# Altium footprint library XSDR.PcbLib: 30 footprints (part 2 of 2)
Each footprint in its own frame and in the unit in brackets; x right, y up, seen from the top. Pads: shape width x height; smd on the part's side, far side on the other; paste and mask are expansions set on the pad; w line width, h text height; cw(c..) or ccw(c..) is an arc to the next point about the centre after c.
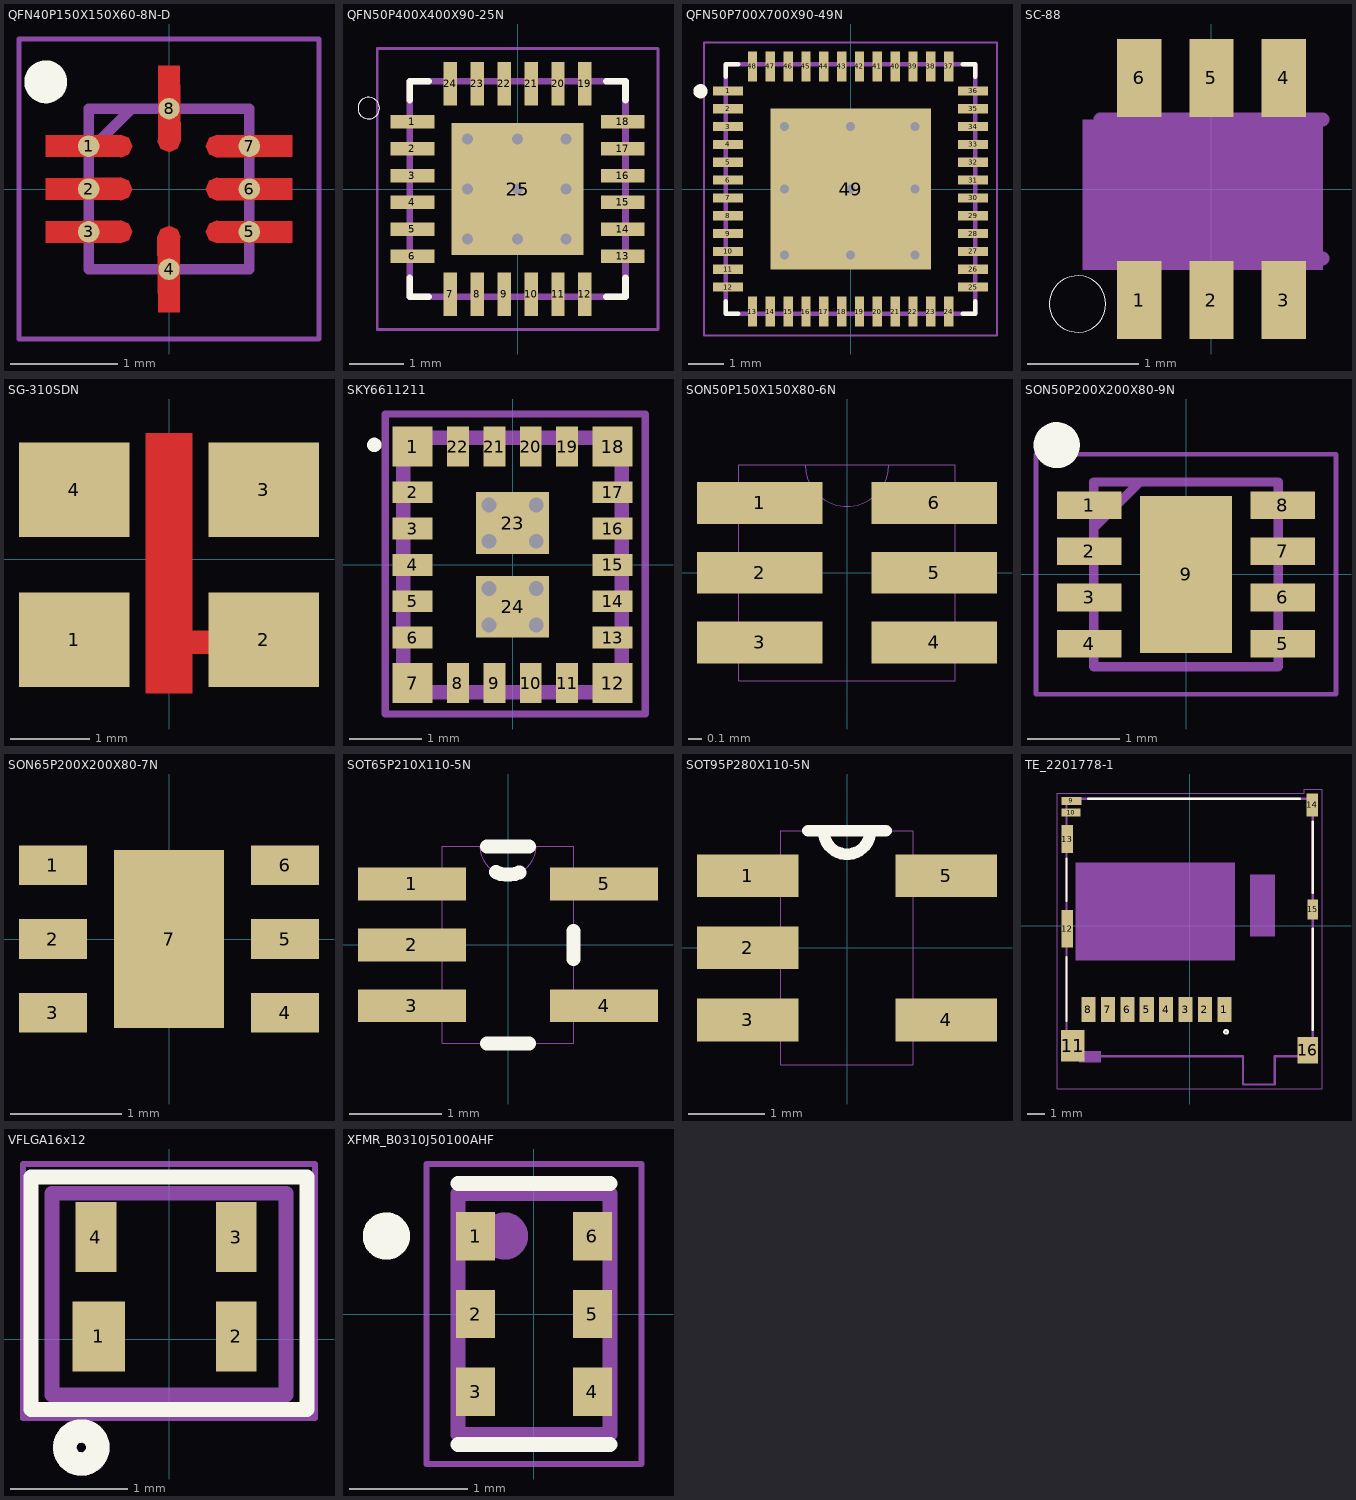
[diagram p1: the footprints below, top view; thin cyan lines are the x and y axes]

## QFN40P150X150X60-8N-D [mm]
pads (8):
  round 0.2 smd: 1(-0.75,0.4) 2(-0.75,0) 3(-0.75,-0.4) 4(0,-0.75) 5(0.75,-0.4) 6(0.75,0) 7(0.75,0.4) 8(0,0.75)
Top Layer:
  region: -1.15,0.5 -0.45,0.508 -0.373,0.477 -0.342,0.4 -0.373,0.323 -0.45,0.292 -0.45,0.3 -1.15,0.3
  region: -1.15,0.1 -0.45,0.108 -0.373,0.077 -0.342,0 -0.373,-0.077 -0.45,-0.108 -0.45,-0.1 -1.15,-0.1
  region: -1.15,-0.3 -0.45,-0.292 -0.373,-0.323 -0.342,-0.4 -0.373,-0.477 -0.45,-0.508 -0.45,-0.5 -1.15,-0.5
  region: -0.1,-1.15 -0.108,-0.45 -0.077,-0.373 0,-0.342 0.077,-0.373 0.108,-0.45 0.1,-0.45 0.1,-1.15
  region: 1.15,-0.5 0.45,-0.508 0.373,-0.477 0.342,-0.4 0.373,-0.323 0.45,-0.292 0.45,-0.3 1.15,-0.3
  region: 1.15,-0.1 0.45,-0.108 0.373,-0.077 0.342,0 0.373,0.077 0.45,0.108 0.45,0.1 1.15,0.1
  region: 1.15,0.3 0.45,0.292 0.373,0.323 0.342,0.4 0.373,0.477 0.45,0.508 0.45,0.5 1.15,0.5
  region: 0.1,1.15 0.108,0.45 0.077,0.373 0,0.342 -0.077,0.373 -0.108,0.45 -0.1,0.45 -0.1,1.15
Top Overlay:
  circle w0.2: c-1.15,1 r0.1
Mechanical 15:
  lines w0.1: -0.75,0.35 -0.35,0.75 ; -0.75,-0.75 0.75,-0.75 0.75,0.75 -0.75,0.75 -0.75,-0.75
Mechanical 20:
  lines w0.05: -1.4,-1.4 1.4,-1.4 1.4,1.4 -1.4,1.4 -1.4,-1.4
3D body "SC560HULTRT.stp": height 0.6, standoff 0, extent -0.8,-0.8 0.8,0.8

## QFN50P400X400X90-25N [mm]
pads (25):
  rect 0.81x0.25 smd: 1(-1.95,1.25) 2(-1.95,0.75) 3(-1.95,0.25) 4(-1.95,-0.25) 5(-1.95,-0.75) 6(-1.95,-1.25) 13(1.95,-1.25) 14(1.95,-0.75) 15(1.95,-0.25) 16(1.95,0.25) 17(1.95,0.75) 18(1.95,1.25)
  rect 0.25x0.81 smd: 7(-1.25,-1.95) 8(-0.75,-1.95) 9(-0.25,-1.95) 10(0.25,-1.95) 11(0.75,-1.95) 12(1.25,-1.95) 19(1.25,1.95) 20(0.75,1.95) 21(0.25,1.95) 22(-0.25,1.95) 23(-0.75,1.95) 24(-1.25,1.95)
  rect 2.45x2.45 smd: 25(0,0)
via 0,0 diameter 0.381 hole 0.203
via 0.9,0 diameter 0.381 hole 0.203
via 0,0.925 diameter 0.381 hole 0.203
via -0.925,-0.925 diameter 0.381 hole 0.203
via -0.925,0 diameter 0.381 hole 0.203
via -0.925,0.925 diameter 0.381 hole 0.203
via 0.9,0.925 diameter 0.381 hole 0.203
via 0.9,-0.925 diameter 0.381 hole 0.203
via 0,-0.925 diameter 0.381 hole 0.203
Top Overlay:
  circle w0: c-2.76,1.5 r0.2
  lines w0.127: -2,-1.65 -2,-2 -1.65,-2 ; -2,1.65 -2,2 -1.65,2 ; 1.65,-2 2,-2 2,-1.65 ; 1.65,2 2,2 2,1.65
Top Paste:
  region: 0.16,1.06 1.06,1.06 1.06,0.16 0.16,0.16
  region: -1.06,1.06 -0.16,1.06 -0.16,0.16 -1.06,0.16
  region: -1.06,-0.16 -0.16,-0.16 -0.16,-1.06 -1.06,-1.06
  region: 0.16,-0.16 1.06,-0.16 1.06,-1.06 0.16,-1.06
Mechanical 4:
  circle w0: c-2.76,1.5 r0.2
  circle w0: c-2.76,1.5 r0.2
  lines w0.127: -2,-2 2,-2 ; -2,-2 -2,2 ; -2,-2 2,-2 ; -2,-2 -2,2 ; -2,2 2,2 ; -2,2 2,2 ; 2,-2 2,2 ; 2,-2 2,2
Mechanical 16:
  lines w0.05: -2.605,-2.605 2.605,-2.605 2.605,2.605 -2.605,2.605 -2.605,-2.605
3D body "SE2435L-R.stp": height 0.9, standoff 0, extent -2.05,-2.037 2.05,2.063

## QFN50P700X700X90-49N [mm]
pads (49):
  rect 0.84x0.26 smd: 1(-3.435,2.75) 2(-3.435,2.25) 3(-3.435,1.75) 4(-3.435,1.25) 5(-3.435,0.75) 6(-3.435,0.25) 7(-3.435,-0.25) 8(-3.435,-0.75) 9(-3.435,-1.25) 10(-3.435,-1.75) 11(-3.435,-2.25) 12(-3.435,-2.75) 25(3.435,-2.75) 26(3.435,-2.25) 27(3.435,-1.75) 28(3.435,-1.25) 29(3.435,-0.75) 30(3.435,-0.25) 31(3.435,0.25) 32(3.435,0.75) 33(3.435,1.25) 34(3.435,1.75) 35(3.435,2.25) 36(3.435,2.75)
  rect 0.26x0.84 smd: 13(-2.75,-3.435) 14(-2.25,-3.435) 15(-1.75,-3.435) 16(-1.25,-3.435) 17(-0.75,-3.435) 18(-0.25,-3.435) 19(0.25,-3.435) 20(0.75,-3.435) 21(1.25,-3.435) 22(1.75,-3.435) 23(2.25,-3.435) 24(2.75,-3.435) 37(2.75,3.435) 38(2.25,3.435) 39(1.75,3.435) 40(1.25,3.435) 41(0.75,3.435) 42(0.25,3.435) 43(-0.25,3.435) 44(-0.75,3.435) 45(-1.25,3.435) 46(-1.75,3.435) 47(-2.25,3.435) 48(-2.75,3.435)
  rect 4.5x4.5 smd: 49(0,0)
via 0,0 diameter 0.508 hole 0.254
via 1.803,0 diameter 0.508 hole 0.254
via -1.854,0 diameter 0.508 hole 0.254
via -1.854,1.753 diameter 0.508 hole 0.254
via 1.803,1.753 diameter 0.508 hole 0.254
via 0,1.753 diameter 0.508 hole 0.254
via -1.854,-1.854 diameter 0.508 hole 0.254
via 1.803,-1.854 diameter 0.508 hole 0.254
via 0,-1.854 diameter 0.508 hole 0.254
Top Overlay:
  circle w0.2: c-4.205,2.74 r0.1
  lines w0.127: -3.5,-3.15 -3.5,-3.5 -3.15,-3.5 ; -3.5,3.15 -3.5,3.5 -3.15,3.5 ; 3.15,-3.5 3.5,-3.5 3.5,-3.15 ; 3.15,3.5 3.5,3.5 3.5,3.15
Top Paste:
  drawing of 4 lines, arcs and shapes, not listed
Mechanical 1:
  lines w0.127: -3.5,-3.5 -3.5,3.5 3.5,3.5 3.5,-3.5 -3.5,-3.5
Mechanical 4:
  lines w0.05: -4.105,-4.105 -4.105,4.105 4.105,4.105 4.105,-4.105 -4.105,-4.105
3D body "CLT01-38SQ7-TR.stp": height 1, standoff 0, extent -3.55,-3.55 3.55,3.55

## SC-88 [mm]
pads (6):
  rect 0.4x0.7 smd: 1(-0.65,-1) 2(0,-1) 3(0.65,-1) 4(0.65,1) 5(0,1) 6(-0.65,1)
Top Overlay:
  circle w0: c-1.205,-1.035 r0.254
Mechanical 1:
  lines w0.127: -1,-0.625 1,-0.625 ; -1,0.625 1,0.625
Mechanical 4:
  region: -1.16,0.625 1,0.625 1,-0.725 -1.16,-0.725

## SG-310SDN [mm] "SG-310SDN 50.0000MJ3"
height 1.2
pads (4):
  rect 1.4x1.2 smd: 1(-1.2,-1.016) 2(1.2,-1.016) 3(1.2,0.884) 4(-1.2,0.884)
Top Layer:
  rectangle: 0.1,-1.2 0.8,-0.9
  rectangle: -0.3,-1.7 0.3,1.6

## SKY6611211 [mm]
pads (24):
  rrect0% 0.55x0.55 smd: 1(-1.375,1.625) 7(-1.375,-1.625) 12(1.375,-1.625) 18(1.375,1.625)
  rect 0.55x0.3 smd: 2(-1.375,1) 3(-1.375,0.5) 4(-1.375,0) 5(-1.375,-0.5) 6(-1.375,-1) 13(1.375,-1) 14(1.375,-0.5) 15(1.375,0) 16(1.375,0.5) 17(1.375,1)
  rect 0.3x0.55 smd: 8(-0.75,-1.625) 9(-0.25,-1.625) 10(0.25,-1.625) 11(0.75,-1.625) 19(0.75,1.625) 20(0.25,1.625) 21(-0.25,1.625) 22(-0.75,1.625)
  rect 1x0.85 smd: 23(0,0.575) 24(0,-0.575)
via 0.325,-0.825 diameter 0.305 hole 0.203
via -0.325,-0.825 diameter 0.305 hole 0.203
via -0.325,-0.325 diameter 0.305 hole 0.203
via 0.325,-0.325 diameter 0.305 hole 0.203
via 0.325,0.325 diameter 0.305 hole 0.203
via -0.325,0.325 diameter 0.305 hole 0.203
via -0.325,0.825 diameter 0.305 hole 0.203
via 0.325,0.825 diameter 0.305 hole 0.203
Top Overlay:
  lines w0.1: -1.9,1.6 ccw(c-1.9,1.65) -1.9,1.7 ccw(c-1.9,1.65) -1.9,1.6
Mechanical 15:
  lines w0.2: -1.5,-1.75 1.5,-1.75 1.5,1.75 -1.5,1.75 -1.5,-1.75
Mechanical 20:
  lines w0.1: -1.75,-2.05 1.825,-2.05 1.825,2.075 -1.75,2.075 -1.75,-2.05
3D body: height 0.75, standoff 0, extent -1.75,-2 1.75,2

## SON50P150X150X80-6N [mil]
pads (6):
  rect 36x12 smd: 1(-25,20) 2(-25,0) 3(-25,-20) 4(25,-20) 5(25,0) 6(25,20)
Mechanical 13:
  lines w0: -12,31 ccw(c0,31) 12,31 ; -12,31 -31,31 -31,-31 31,-31 31,31 12,31 ; -12,31 12,31

## SON50P200X200X80-9N [mm]
pads (9):
  rect 0.7x0.3 smd: 1(-1.05,0.75) 2(-1.05,0.25) 3(-1.05,-0.25) 4(-1.05,-0.75) 5(1.05,-0.75) 6(1.05,-0.25) 7(1.05,0.25) 8(1.05,0.75)
  rect 1x1.7 smd: 9(0,0)
Top Overlay:
  circle w0.25: c-1.4,1.4 r0.125
Mechanical 15:
  lines w0.1: -1,0.5 -0.5,1 ; -1,-1 1,-1 1,1 -1,1 -1,-1
Mechanical 20:
  lines w0.05: -1.625,-1.3 1.625,-1.3 1.625,1.3 -1.625,1.3 -1.625,-1.3

## SON65P200X200X80-7N [mil]
pads (7):
  rect 24x14 smd: 1(-41,26) 2(-41,0) 3(-41,-26) 4(41,-26) 5(41,0) 6(41,26)
  rect 39x63 smd: 7(0,0)

## SOT65P210X110-5N [mil]
pads (5):
  rect 46x14 smd: 1(-41,26) 2(-41,0) 3(-41,-26) 4(41,-26) 5(41,26)
Top Overlay:
  lines w6: -9,-42 9,-42 ; -9,42 9,42 ; -5.1,31.04 ccw(c0,41.97) 4.9,30.96 ; 28,-6 28,6
Mechanical 1:
  lines w0: -28,-31 -28,-42 28,-42 28,-31 ; -28,-31 -28,-20 ; -28,-31 -47,-31 -47,-20 -28,-20 ; -28,-20 -28,-6 ; -28,-6 -28,6 ; -28,-6 -47,-6 -47,6 -28,6 ; -28,6 -28,20 ; -28,20 -28,31 ; -28,20 -47,20 -47,31 -28,31 ; -28,31 -28,42 -12,42 ; -12,42 ccw(c0,42) 12,42 ; -12,42 12,42 ; 12,42 28,42 28,31 ; 28,-31 28,-20 ; 28,-31 47,-31 47,-20 28,-20 ; 28,-20 28,20 ; 28,20 28,31 ; 28,20 47,20 47,31 28,31

## SOT95P280X110-5N [mil]
pads (5):
  rect 52x22 smd: 1(-51,37) 2(-51,0) 3(-51,-37) 4(51,-37) 5(51,37)
Top Overlay:
  lines w6: -20,60 -12,60 ; 20,60 12,60 ; -12,60 ccw(c0,60) 12,60 ; -12,60 12,60
Mechanical 1:
  lines w0: -34,-47 -34,-60 34,-60 34,-47 ; -34,-47 -34,-28 ; -34,-47 -60,-47 -60,-28 -34,-28 ; -34,-28 -34,-10 ; -34,-10 -34,10 ; -34,-10 -60,-10 -60,10 -34,10 ; -34,10 -34,28 ; -34,28 -34,47 ; -34,28 -60,28 -60,47 -34,47 ; -34,47 -34,60 -12,60 ; -12,60 ccw(c0,60) 12,60 ; -12,60 12,60 ; 12,60 34,60 34,47 ; 34,-47 34,-28 ; 34,-47 60,-47 60,-28 34,-28 ; 34,-28 34,28 ; 34,28 34,47 ; 34,28 60,28 60,47 34,47

## TE_2201778-1 [mm]
pads (16):
  rect 0.8x1.4 smd: 1(1.965,-4.75) 2(0.865,-4.75) 3(-0.235,-4.75) 4(-1.335,-4.75) 5(-2.435,-4.75) 6(-3.535,-4.75) 7(-4.635,-4.75) 8(-5.735,-4.75)
  rect 1.15x0.45 smd: 9(-6.7,7.075)
  rect 1.1x0.45 smd: 10(-6.725,6.415)
  rect 1.35x1.8 smd: 11(-6.625,-6.8)
  rect 0.65x2.14 smd: 12(-6.95,-0.17)
  rect 0.65x1.6 smd: 13(-6.95,4.91)
  rect 0.65x1.3 smd: 14(6.95,6.85)
  rect 0.6x1.15 smd: 15(6.975,0.925)
  rect 1.16x1.5 smd: 16(6.695,-7.05)
Top Overlay:
  circle w0.127: c2.06,-6.01 r0.1
  lines w0.127: -6.975,-5.38 -6.975,-1.77 ; -6.975,1.41 -6.975,3.8 ; -5.77,7.2 6.24,7.2 ; 6.975,-5.9 6.975,-0.17 ; 6.975,1.85 6.975,5.91
Mechanical 1:
  region: -6.246,-7.1 -5.045,-7.1 -5.045,-7.727 -6.246,-7.727
  region: -6.459,3.57 2.565,3.57 2.565,-1.967 -6.459,-1.967
  region: 3.432,2.9 4.825,2.9 4.825,-0.601 3.432,-0.601
  lines w0.05: -7.5,-9.25 -7.5,7.5 6.5,7.5 6.5,7.75 7.5,7.75 7.5,-9.25 -7.5,-9.25
  lines w0.127: 6.965,-7.4 4.825,-7.4 4.825,-9 3.025,-9 3.025,-7.4 -6.975,-7.4 -6.975,7.2 6.975,7.2 6.975,-7.4
3D body "c-2201778-1-a-3d.stp": height 1.75, standoff -0.05, extent -7.065,-9 6.965,7.2

## VFLGA16x12 [mm]
pads (4):
  rect 0.45x0.6 smd: 1(-0.6,0.025)
  rect 0.35x0.6 smd: 2(0.575,0.025) 3(0.575,0.875) 4(-0.625,0.875)
Top Overlay:
  circle w0.2: c-0.75,-0.925 r0.141
  lines w0.127: -1.18,-0.6 -1.18,1.39 1.18,1.39 1.18,-0.6 -1.18,-0.6
Mechanical 4:
  circle w0.2: c-0.75,-0.925 r0.141
  circle w0.2: c-0.75,-0.925 r0.141
  lines w0.127: -1,-0.475 -1,1.25 ; -1,-0.475 1,-0.475 ; -1,-0.475 -1,1.25 ; -1,-0.475 1,-0.475 ; -1,1.25 1,1.25 ; -1,1.25 1,1.25 ; 1,-0.475 1,1.25 ; 1,-0.475 1,1.25
Mechanical 16:
  lines w0.05: -1.25,-0.675 1.25,-0.675 1.25,1.5 -1.25,1.5 -1.25,-0.675

## XFMR_B0310J50100AHF [mm] "match with 0896BM15E0025 Balun"
pads (6):
  rect 0.33x0.41 smd: 1(-0.495,0.66) 2(-0.495,0) 3(-0.495,-0.66) 4(0.495,-0.66) 5(0.495,0) 6(0.495,0.66)
Top Overlay:
  circle w0.2: c-1.25,0.66 r0.1
  lines w0.127: -0.645,-1.105 0.645,-1.105 ; -0.645,1.105 0.645,1.105
Mechanical 1:
  circle w0.2: c-0.25,0.66 r0.1
  lines w0.127: -0.645,-1.02 -0.645,1.02 0.645,1.02 0.645,-1.02 -0.645,-1.02
Mechanical 4:
  lines w0.05: -0.91,-1.27 -0.91,1.27 0.91,1.27 0.91,-1.27 -0.91,-1.27